# EAGLE library part ZX360D-B (library con-Hirose)
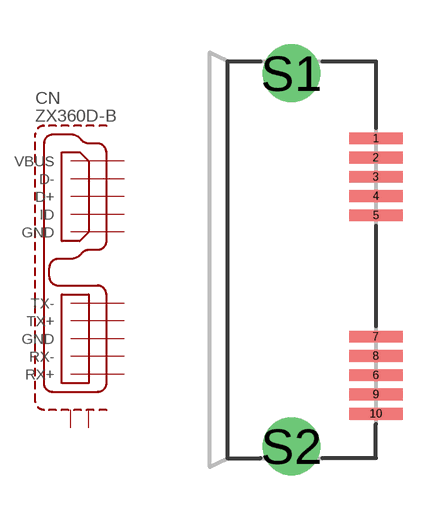
[diagram p4: symbol with the pads of ZX360D-B; footprint ZX360D-B]

Designator prefix CN

## ZX360D-B  [ZX360D-B]
1  VBUS  pas
2  D-  pas
3  D+  pas
4  ID  pas
5  GND  pas
6  TX-  pas
7  TX+  pas
8  GND  pas
9  RX-  pas
10  RX+  pas
S1  S1  pas
S2  S2  pas

## Footprint ZX360D-B (pad centres in mm)
smd 1.8 x 0.4: 1 0,1.3; 2 0,0.65; 3 0,0; 4 0,-0.65; 5 0,-1.3; 6 0,-6.7; 7 0,-5.4; 8 0,-6.05; 9 0,-7.35; 10 0,-8
drill 1.3: S1 -2.85,3.5; S2 -2.85,-9.1